# EAGLE library part ERJ-A1 (library Panasonic-ERJ3_ERJ8_ERJA_ERJB)
High Power Chip Resistors / Wide Terminal Type,2512,1.33 W,± 5 %
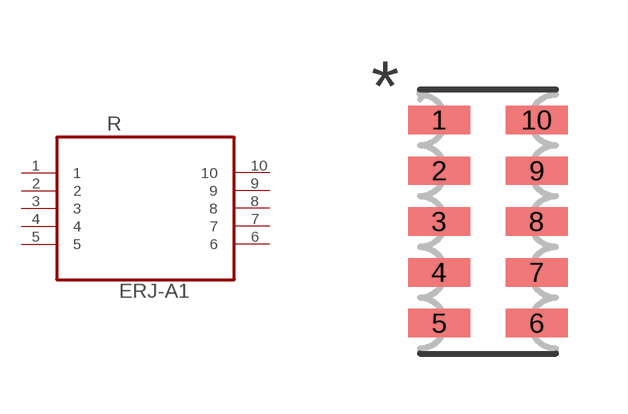
[diagram p0: symbol with the pads of RESCA_ERJA1-10N; footprint RESCA_ERJA1-10N]

Designator prefix R

## ERJ-A1AJ102U (MPN: ERJ-A1AJ102U; OC_FARNELL: 1670334; OC_NEWARK: 40P0049; PACKAGE-SIZE: A1 : 2512; POWERRATING: 1.33 W; SUPPLIER: PANASONIC; TOLERANCE: ± 5%; VALUE: 1K), ERJ-A1CJR012U (MPN: ERJ-A1CJR012U; OC_FARNELL: 1670269; OC_NEWARK: 40P0105; PACKAGE-SIZE: A1 : 2512; POWERRATING: 1.33 W; SUPPLIER: PANASONIC; TOLERANCE: ± 5%; VALUE: 0R012), ERJ-A1CJR056U (MPN: ERJ-A1CJR056U; OC_FARNELL: 1670278; OC_NEWARK: 40P0113; PACKAGE-SIZE: A1 : 2512; POWERRATING: 1.33 W; SUPPLIER: PANASONIC; TOLERANCE: ± 5%; VALUE: 0R056), ERJ-A1CJR082U (MPN: ERJ-A1CJR082U; OC_FARNELL: 1670280; OC_NEWARK: 40P0115; PACKAGE-SIZE: A1 : 2512; POWERRATING: 1.33 W; SUPPLIER: PANASONIC; TOLERANCE: ± 5%; VALUE: 0R082), ERJ-A1CJR12U (MPN: ERJ-A1CJR12U; OC_FARNELL: 1670283; OC_NEWARK: 40P0117; PACKAGE-SIZE: A1 : 2512; POWERRATING: 1.33 W; SUPPLIER: PANASONIC; TOLERANCE: ± 5%; VALUE: 0R12), ERJ-A1CJR15U (MPN: ERJ-A1CJR15U; OC_FARNELL: 1670284; OC_NEWARK: 40P0118; PACKAGE-SIZE: A1 : 2512; POWERRATING: 1.33 W; SUPPLIER: PANASONIC; TOLERANCE: ± 5%; VALUE: 0R15), ERJ-A1CJR18U (MPN: ERJ-A1CJR18U; OC_FARNELL: 1670285; OC_NEWARK: unknown; PACKAGE-SIZE: A1 : 2512; POWERRATING: 1.33 W; SUPPLIER: PANASONIC; TOLERANCE: ± 5%; VALUE: 0R18)  [RESCA_ERJA1-10N]
1  1  pas
2  2  pas
3  3  pas
4  4  pas
5  5  pas
6  6  pas
7  7  pas
8  8  pas
9  9  pas
10  10  pas

## Footprint RESCA_ERJA1-10N (pad centres in mm)
smd 1.549 x 0.711: 1 -1.219,2.54; 2 -1.219,1.27; 3 -1.219,0; 4 -1.219,-1.27; 5 -1.219,-2.54; 6 1.219,-2.54; 7 1.219,-1.27; 8 1.219,0; 9 1.219,1.27; 10 1.219,2.54